# Altium schematic symbol library myComponents.SchLib: 16 symbols
Pins are listed as number, name and electrical type; pins without a type are passive.

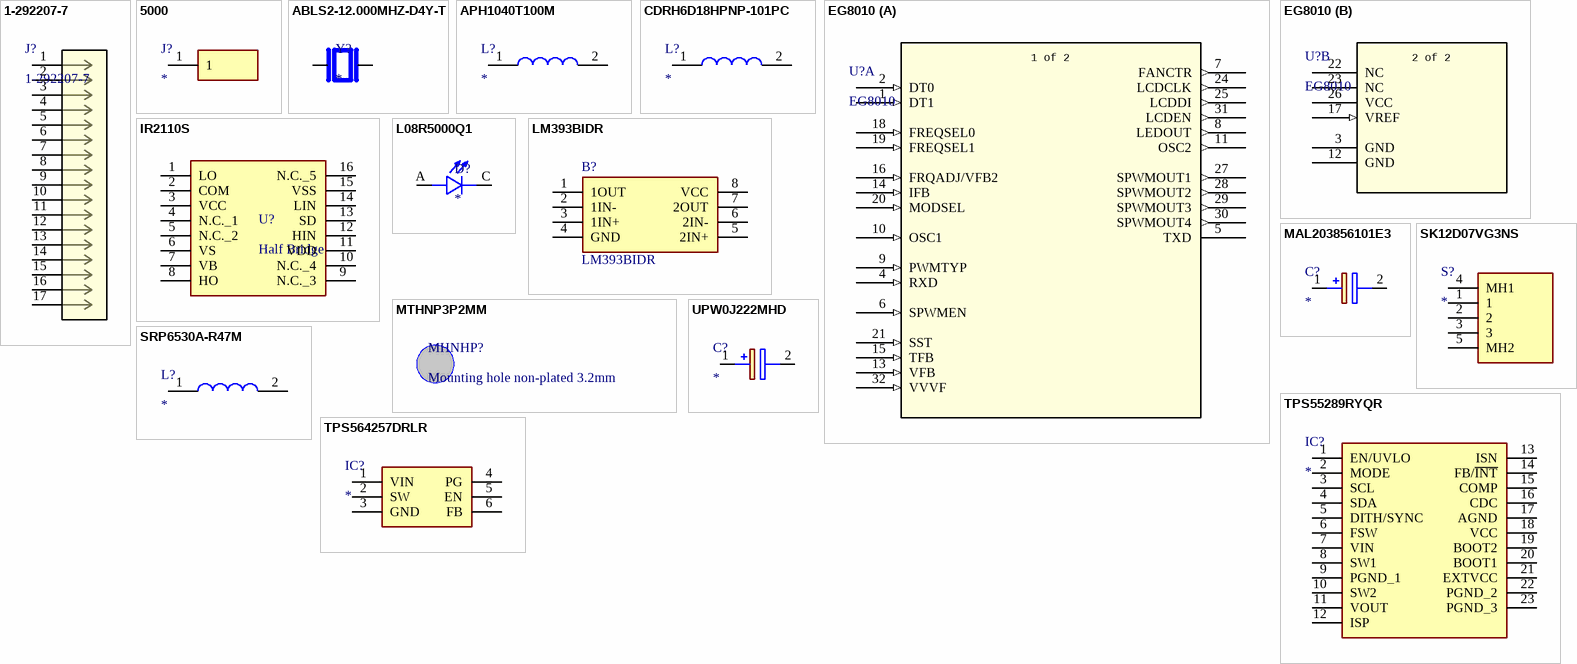
[diagram p0: symbols 1-292207-7 to UPW0J222MHD]

## 1-292207-7
designator J?
MINI CT SGL DIP V 17P NAT; Manufacturer_Name: TE Connectivity; Copyright: Copyright (C) 2026 Ultra Librarian. All rights reserved.; Manufacturer_Part_Number: 1-292207-7; Datasheet: https://www.te.com/commerce/DocumentDelivery/DDEController?Action=srchrtrv&DocNm=108-60018-1&DocType=Specification+Or+Standard&DocLang=Japanese&PartCntxt=928037-2&DocFormat=pdf; RefDes: RefDes; Type: Type
pins: 1, 2, 3, 4, 5, 6, 7, 8, 9, 10, 11, 12, 13, 14, 15, 16, 17

## 5000
designator J?
Connector; Manufacturer_Name: Keystone Electronics; Manufacturer_Part_Number: 5000; Datasheet Link: http://www.keyelco.com/product-pdf.cfm?p=1309; Mouser Part Number: 534-5000; Mouser Price/Stock: https://www.mouser.co.uk/ProductDetail/Keystone-Electronics/5000?qs=q0tsjPZWdm%252B9SiiTAbEwUw%3D%3D; Arrow Part Number: 5000; Arrow Price/Stock: https://www.arrow.com/en/products/5000/keystone-electronics.html?utm_currency=USD&region=europe
footprint 5000
pins: 1

## ABLS2-12.000MHZ-D4Y-T
designator Y?
HC/49US (AT49) LOW PROFILE SURFACE MOUNT MICROPROCESSOR CRYSTAL; MP: ABLS2-12.000MHZ-D4Y-T; MF: Abracon; Purchase-URL: https://pricing.snapeda.com/search/part/ABLS2-12.000MHZ-D4Y-T/?ref=eda; Package: HC49/US Abracon; Value: *; Price: None; Availability: In Stock; SnapEDA_Link: https://www.snapeda.com/parts/ABLS2-12.000MHZ-D4Y-T/Abracon+LLC/view-part/?ref=snap; Check_prices: https://www.snapeda.com/parts/ABLS2-12.000MHZ-D4Y-T/Abracon+LLC/view-part/?ref=eda
footprint XTAL_ABLS2-12.000MHZ-D4Y-T
pins: 1, 2

## APH1040T100M
designator L?
Inductor; Manufacturer_Name: APV; Manufacturer_Part_Number: APH1040T100M; Datasheet Link: https://www.lcsc.com/datasheet/lcsc_datasheet_2301121209_APV-APH0530T1R5M_C5349678.pdf; Height: 4mm
footprint APH1040T100M
pins: 1, 2

## CDRH6D18HPNP-101PC
designator L?
Inductor; Manufacturer_Name: Sumida; Manufacturer_Part_Number: CDRH6D18HPNP-101PC; Datasheet Link: https://4donline.ihs.com/images/VipMasterIC/IC/SMDC/SMDC-S-A0002849326/SMDC-S-A0002849326-1.pdf?hkey=EF798316E3902B6ED9A73243A3159BB0; Height: 2mm
footprint CDRH6D18HPNP101PC - duplicate
pins: 1, 2

## EG8010
designator U?
Description; Manufacturer_Name: EG; Copyright: Copyright (C) 2026 Ultra Librarian. All rights reserved.; Manufacturer_Part_Number: EG8010; RefDes: RefDes; Type: Type
footprint EG8010
part A pins: 1 DT1 (in), 2 DT0 (in), 4 RXD (in), 5 TXD, 6 SPWMEN (in), 7 FANCTR (out), 8 LEDOUT (out), 9 PWMTYP (in), 10 OSC1 (in), 11 OSC2 (out), 13 VFB (in), 14 IFB (in), 15 TFB (in), 16 FRQADJ/VFB2 (in), 18 FREQSEL0 (in), 19 FREQSEL1 (in), 20 MODSEL (in), 21 SST (in), 24 LCDCLK (out), 25 LCDDI (out), 27 SPWMOUT1 (out), 28 SPWMOUT2 (out), 29 SPWMOUT3 (out), 30 SPWMOUT4 (out), 31 LCDEN (out), 32 VVVF (in)
part B pins: 3 GND, 12 GND, 17 VREF (in), 22 NC, 23 NC, 26 VCC (power)
part A text: 1 of 2
part B text: 2 of 2

## IR2110S
designator U?, comment Half Bridge
footprint IR2110S
pins: 1 LO, 2 COM, 3 VCC, 4 N.C._1, 5 N.C._2, 6 VS, 7 VB, 8 HO, 9 N.C._3, 10 N.C._4, 11 VDD, 12 HIN, 13 SD, 14 LIN, 15 VSS, 16 N.C._5

## L08R5000Q1
designator D?
LED, 5MM, ORANGE; LED / Lamp Size: 5mm / T-1 3/4; LED Colour: Orange; Typ Luminous Intensity: 4.3mcd; Viewing Angle: ...; MP: L08R5000Q1; MF: LED Technology; Value: *; SnapEDA_Link: https://www.snapeda.com/parts/L08R5000Q1/LED+Technology/view-part/?ref=snap; Check_prices: https://www.snapeda.com/parts/L08R5000Q1/LED+Technology/view-part/?ref=eda; Availability: In Stock; Price: None; Package: None
footprint LEDRD254W57D500H1070
pins: A, C

## LM393BIDR
designator B?
Analog Comparators Dual standard comparator 8-SOIC -40 to 85; Manufacturer_Name: Texas Instruments; Geometry.Height: 1.75mm; Manufacturer_Part_Number: LM393BIDR; Mouser Part Number: 595-LM393BIDR; Mouser Price/Stock: https://www.mouser.co.uk/ProductDetail/Texas-Instruments/LM393BIDR?qs=BJlw7L4Cy78N8CV%252BGpRosA%3D%3D; Arrow Part Number: LM393BIDR; Arrow Price/Stock: https://www.arrow.com/en/products/lm393bidr/texas-instruments?utm_currency=USD&region=nac; Datasheet Link: https://www.ti.com/lit/gpn/LM393B
footprint SOIC127P600X175-8N
pins: 1 1OUT, 2 1IN-, 3 1IN+, 4 GND, 5 2IN+, 6 2IN-, 7 2OUT, 8 VCC

## MAL203856101E3
designator C?
Capacitor Polarised; Manufacturer_Name: Vishay; Manufacturer_Part_Number: MAL203856101E3; Datasheet Link: https://componentsearchengine.com/Datasheets/2/MAL203856101E3.pdf; Height: 12.5mm; Mouser Part Number: 594-MAL203856101E3; Mouser Price/Stock: https://www.mouser.co.uk/ProductDetail/Vishay-BC-Components/MAL203856101E3?qs=G99oyVYclWUG3wiHKtPKfA%3D%3D; Arrow Part Number: MAL203856101E3; Arrow Price/Stock: https://www.arrow.com/en/products/mal203856101e3/vishay
footprint CAPPRD250W50D680H1250
pins: 1 +, 2 -

## MTHNP3P2MM
designator MHNHP?, comment Mounting hole non-plated 3.2mm
Mounting hole non-plated 3.2mm through hole drill
footprint MTHNP3P2MM (mountinh hole non plated 3.2mm)

## SK12D07VG3NS
designator S?
Switch; Manufacturer_Name: LITTELFUSE; Manufacturer_Part_Number: SK12D07VG3NS; Datasheet Link: https://www.ckswitches.com/media/1432/sk.pdf; Height: 4.7mm; Mouser Part Number: 611-SK12D07VG3NS; Mouser Price/Stock: https://www.mouser.co.uk/ProductDetail/CK/SK12D07VG3NS?qs=Gufeu08L%2Fl1%252BoOFGqR6EIw%3D%3D
footprint SK12D07VG3NS
pins: 1, 2, 3, 4 MH1, 5 MH2

## SRP6530A-R47M
designator L?
Inductor; Manufacturer_Name: Bourns; Manufacturer_Part_Number: SRP6530A-R47M; Datasheet Link: http://www.bourns.com/docs/Product-Datasheets/SRP6530A.pdf; Height: 3mm; Mouser Part Number: 652-SRP6530A-R47M; Mouser Price/Stock: https://www.mouser.co.uk/ProductDetail/Bourns/SRP6530A-R47M?qs=e8oIoAS2J1QHe7BXX3%252BHFQ%3D%3D; Arrow Part Number: SRP6530A-R47M; Arrow Price/Stock: https://www.arrow.com/en/products/srp6530a-r47m/bourns?region=nac
footprint INDPM7166X300N
pins: 1, 2

## TPS55289RYQR
designator IC?
Integrated Circuit; Manufacturer_Name: Texas Instruments; Manufacturer_Part_Number: TPS55289RYQR; Datasheet Link: https://www.ti.com/lit/ds/symlink/tps55289.pdf?ts=1664818706180&ref_url=https%253A%252F%252Fwww.ti.com%252Fproduct%252FTPS55289%252Fpart-details%252FTPS55289RYQR%253FkeyMatch%253DTPS55289RYQR; Height: 1mm; Mouser Part Number: 595-TPS55289RYQR; Mouser Price/Stock: https://www.mouser.co.uk/ProductDetail/Texas-Instruments/TPS55289RYQR?qs=T%252BzbugeAwjhgaIN94Lbpjg%3D%3D; Arrow Part Number: TPS55289RYQR; Arrow Price/Stock: https://www.arrow.com/en/products/tps55289ryqr/texas-instruments.html?utm_currency=USD&region=nac
footprint TPS55289RYQR
pins: 1 EN/UVLO, 2 MODE, 3 SCL, 4 SDA, 5 DITH/SYNC, 6 FSW, 7 VIN, 8 SW1, 9 PGND_1, 10 SW2, 11 VOUT, 12 ISP, 13 ISN, 14 FB/~{INT}, 15 COMP, 16 CDC, 17 AGND, 18 VCC, 19 BOOT2, 20 BOOT1, 21 EXTVCC, 22 PGND_2, 23 PGND_3

## TPS564257DRLR
designator IC?
Integrated Circuit; Manufacturer_Name: Texas Instruments; Manufacturer_Part_Number: TPS564257DRLR; Datasheet Link: https://www.ti.com/lit/ds/symlink/tps564257.pdf?HQS=dis-mous-null-mousermode-dsf-pf-null-wwe&ts=1695023870951&ref_url=https%253A%252F%252Fwww.mouser.de%252F; Height: 0.6mm; Mouser Part Number: 595-TPS564257DRLR; Mouser Price/Stock: https://www.mouser.co.uk/ProductDetail/Texas-Instruments/TPS564257DRLR?qs=ulEaXIWI0c8amaZvnJWTQQ%3D%3D; Arrow Part Number: TPS564257DRLR; Arrow Price/Stock: https://www.arrow.com/en/products/tps564257drlr/texas-instruments?utm_currency=USD&region=nac
footprint SOTFL50P160X60-6N
pins: 1 VIN, 2 SW, 3 GND, 4 PG, 5 EN, 6 FB

## UPW0J222MHD
designator C?
Capacitor Polarised; Manufacturer_Name: Nichicon; Manufacturer_Part_Number: UPW0J222MHD; Datasheet Link: https://componentsearchengine.com/Datasheets/1/UPW0J222MHD.pdf; Height: 20mm; Mouser Part Number: 647-UPW0J222MHD; Mouser Price/Stock: https://www.mouser.co.uk/ProductDetail/Nichicon/UPW0J222MHD?qs=xKlMw8j03VdQkAIq%2FPYnUg%3D%3D
footprint CAPPRD500W60D1275H2000 - duplicate
pins: 1 +, 2 -